# Altium footprint library ANTC800X100X110L90N.PcbLib: 1 footprints
Each footprint in its own frame and in the unit in brackets; x right, y up, seen from the top. Pads: shape width x height; smd on the part's side, far side on the other; paste and mask are expansions set on the pad; w line width, h text height; cw(c..) or ccw(c..) is an arc to the next point about the centre after c.
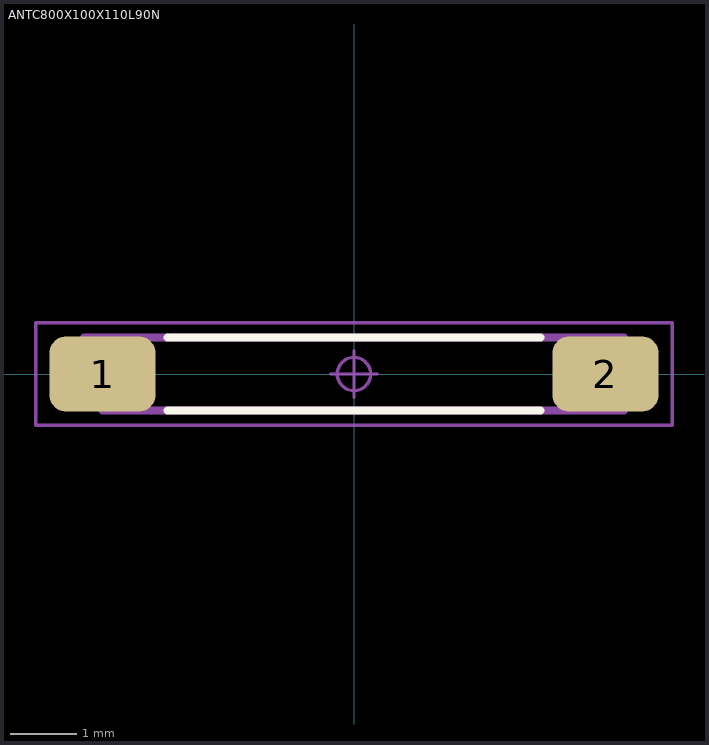
[diagram p0: the footprint, top view; thin cyan lines are the x and y axes]

## ANTC800X100X110L90N [mm] "Antenna, Chip; 8.00 mm L X 1.00 mm W X 1.10 mm H body"
height 1.1
pads (2):
  rrect44% 1.59x1.13 smd: 1(-3.77,0) 2(3.77,0)
Top Overlay:
  lines w0.12: -2.795,-0.55 2.795,-0.55 ; -2.795,0.55 2.795,0.55
Mechanical 3:
  lines w0.12: -4.05,-0.268 -4.05,0.55 4.05,0.55 4.05,-0.55 -3.768,-0.55 -4.05,-0.268
Mechanical 5:
  lines w0.025: -4,-0.5 4,-0.5 ; -4,-0.5 -4,0.5 ; -4,-0.5 -4,0.5 ; -4,-0.5 -3.1,-0.5 -3.1,0.5 -4,0.5 ; -4,0.5 4,0.5 ; 4,-0.5 4,0.5 ; 4,-0.5 3.1,-0.5 3.1,0.5 4,0.5 ; 4,-0.5 4,0.5
Mechanical 7:
  circle w0.05: c0,0 r0.25
  lines w0.05: -0.35,0 0.35,0 ; 0,-0.35 0,0.35 ; -4.77,-0.77 4.77,-0.77 4.77,0.77 -4.77,0.77 -4.77,-0.77
Mechanical 9:
  text "'.Designator'" at -5.715,-0.635 h1
3D body "ANTC800X100X110L90.STEP": height 1.1, standoff 0, extent -4,-0.5 4,0.5
3D body: height 0.1, standoff 0, extent -4.77,-0.77 4.77,0.77
3D body: height 1.04, standoff 0, extent -4.77,-0.77 4.77,0.77